# Altium schematic symbol library plcc6.SchLib: 1 symbol
Pins are listed as number, name and electrical type; pins without a type are passive.

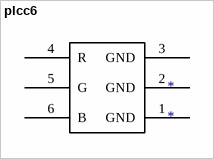
[diagram p0: symbol plcc6]

## plcc6
designator *
footprint plcc6
pins: 1 GND, 2 GND, 3 GND, 4 R, 5 G, 6 B